# Altium footprint library QBW01Footprint.PcbLib: 5 footprints
Each footprint in its own frame and in the unit in brackets; x right, y up, seen from the top. Pads: shape width x height; smd on the part's side, far side on the other; paste and mask are expansions set on the pad; w line width, h text height; cw(c..) or ccw(c..) is an arc to the next point about the centre after c.
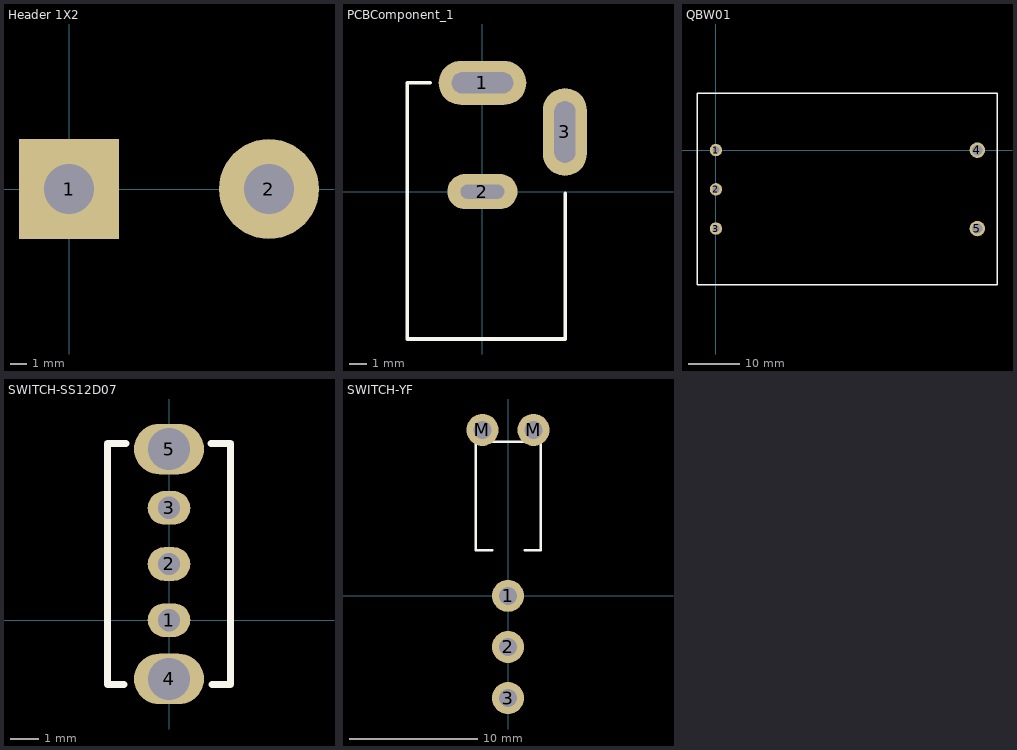
[diagram p0: the footprints below, top view; thin cyan lines are the x and y axes]

## Header 1X2 [mm] "Circle6Hole3"
height 12.7
pads (2):
  rect 6x6 hole 3: 1(0,0)
  round 6 hole 3: 2(12,0)

## PCBComponent_1 [mm]
pads (3):
  oval 5x2.5 hole 3.5 slot 1.2 at 90 deg: 1(0,6.2)
  oval 4x2 hole 2.5 slot 0.8 at 90 deg: 2(0,0)
  oval 2.5x5 hole 1.2 slot 3.5 at 90 deg: 3(4.7,3.4)
Top Overlay:
  lines w0.2: -2.989,6.195 -4.289,6.195 -4.289,-8.405 4.711,-8.405 4.711,-0.105

## QBW01 [mm] "QBW0112V18ADCDC"
height 12.7
pads (5):
  round 2.4 hole 1.4: 1(0,0) 2(0,-7.62) 3(0,-15.24)
  round 3 hole 2: 4(50.8,0) 5(50.8,-15.24)
Top Overlay:
  lines w0.254: -3.683,-26.162 -3.683,10.922 -3.683,11.049 54.61,11.049 54.61,-26.162 -3.683,-26.162

## SWITCH-SS12D07 [mm] "拨动开关 单刀双掷"
height 8
pads (5):
  oval 1.524x1.2 hole 0.8: 1(0,0) 2(0,2) 3(0,4)
  oval 2.5x1.8 hole 1.5: 4(0,-2.1) 5(0,6.1)
Top Overlay:
  lines w0.254: -1.612,-2.298 -2.198,-2.298 -2.2,-2.3 -2.2,6.298 -2.199,6.299 -1.745,6.299 -1.529,6.299 ; 1.506,6.301 2.199,6.301 ; 1.536,-2.299 2.199,-2.299 2.2,-2.3 2.2,6.3 ; 2.199,6.301 2.2,6.3

## SWITCH-YF [mm] "5A125V"
height 13
pads (5):
  round 2.5 hole 1.4: 1(0,0) 2(0,-4) 3(0,-8) M(-2,13) M(2,13)
Top Overlay:
  lines w0.2: -1.244,3.576 -2.514,3.576 -2.514,12.085 2.566,12.085 2.566,3.576 1.296,3.576